# Altium footprint library adafruit.PCBLIB: 643 footprints (part 31 of 41)
Each footprint in its own frame and in the unit in brackets; x right, y up, seen from the top. Pads: shape width x height; smd on the part's side, far side on the other; paste and mask are expansions set on the pad; w line width, h text height; cw(c..) or ccw(c..) is an arc to the next point about the centre after c.
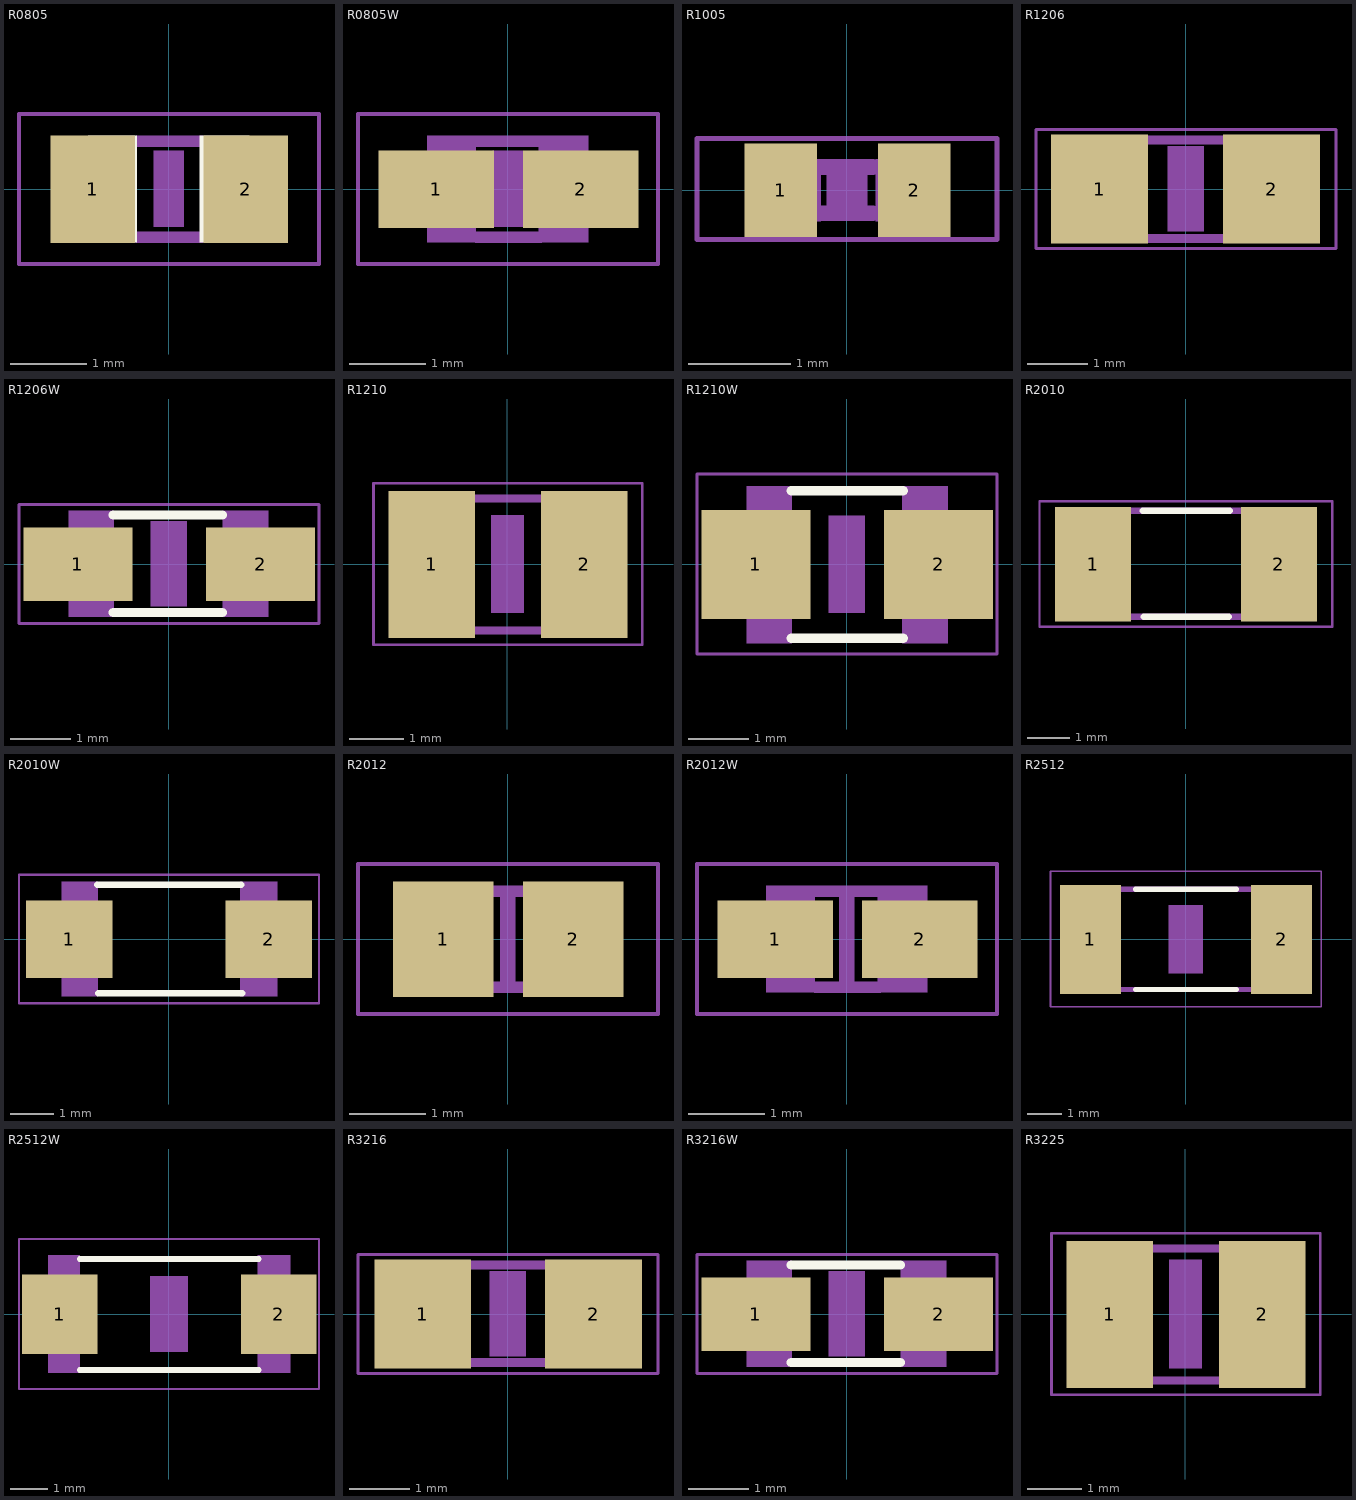
[diagram p30: the footprints below, top view; thin cyan lines are the x and y axes]

## R0805 [mil]
pads (2):
  rect 44x56 smd: 1(-39.37,0) 2(40,0)
Top Overlay:
  rectangle: 16,-27.5 42,28
  rectangle: -42,-27.5 -16.41,28
Assembly Text Top:
  rectangle: -7.87,-19.69 8,20
Courtyard Bottom:
  lines w6: -16.14,-25 17,-25 ; -16.14,25 17,25
Mech37:
  lines w2: -77.68,-38.7 78,-38.7 78,39 -77.68,39 -77.68,-38.7

## R0805W [mil]
pads (2):
  rect 60x40 smd: 1(-37.01,0) 2(38,0)
Assembly Text Top:
  rectangle: -7.87,-19.69 8,20
Courtyard Bottom:
  rectangle: 16,-27.5 42,28
  rectangle: -42,-27.5 -16.41,28
  lines w6: -16.14,-25 17,-25 ; -16.14,25 17,25
Mech37:
  lines w2: -77.68,-38.7 78,-38.7 78,39 -77.68,39 -77.68,-38.7

## R1005 [mil]
pads (2):
  rect 28x36 smd: 1(-25.59,0) 2(26,0)
Assembly Text Top:
  rectangle: -7.87,-11.81 8,12
Courtyard Bottom:
  rectangle: -21.81,-12 -10,12
  rectangle: 11,-12 22,12
  lines w6: -9.65,-8.82 10,-8.82 ; -9.65,9 10,9
Mech37:
  lines w2: -57.99,-19.02 58,-19.02 58,20 -57.99,20 -57.99,-19.02

## R1206 [mil]
pads (2):
  rect 63x71 smd: 1(-55.98,0) 2(56,0)
Assembly Text Top:
  rectangle: -11.81,-27.56 12,28
Courtyard Bottom:
  rectangle: -66.5,-34.5 -37.5,35
  rectangle: 38,-34.5 67,35
  lines w6: -38,-32 38,-32 ; -38,32 38,32
Mech37:
  lines w2: -97.36,-38.7 98,-38.7 98,39 -97.36,39 -97.36,-38.7

## R1206W [mil]
pads (2):
  rect 71x48 smd: 1(-59.02,0) 2(60,0)
Top Overlay:
  lines w6: -35.94,-31.5 35,-31.5 ; -35.94,32 35,32
Assembly Text Top:
  rectangle: -11.81,-27.56 12,28
Courtyard Bottom:
  rectangle: -65,-34.5 -35.47,35
  rectangle: 35,-34.5 65,35
Mech37:
  lines w2: -97.36,-38.7 98,-38.7 98,39 -97.36,39 -97.36,-38.7

## R1210 [mil]
pads (2):
  rect 63x107 smd: 1(-55.12,0) 2(56,0)
Assembly Text Top:
  rectangle: -11.81,-35.43 12,36
Courtyard Bottom:
  rectangle: -65,-51.5 -35.47,51
  rectangle: 36,-51.5 66,51
  lines w6: -35.94,-47.99 37,-47.99 ; -35.94,48 37,48
Mech37:
  lines w2: -97.36,-58.39 98,-58.39 98,59 -97.36,59 -97.36,-58.39

## R1210W [mil]
pads (2):
  rect 71x71 smd: 1(-59.02,0) 2(60,0)
Top Overlay:
  lines w6: -35.94,-47.99 37,-47.99 ; -35.94,48 37,48
Assembly Text Top:
  rectangle: -11.81,-31.5 12,32
Courtyard Bottom:
  rectangle: -65,-51.5 -35.47,51
  rectangle: 36,-51.5 66,51
Mech37:
  lines w2: -97.36,-58.39 98,-58.39 98,59 -97.36,59 -97.36,-58.39

## R2010 [mil]
pads (2):
  rect 71x107 smd: 1(-86.61,0) 2(87,0)
Top Overlay:
  lines w6: -40.43,50 41,50 ; -39.45,-49.02 40,-49.02
Courtyard Bottom:
  rectangle: -98,-52 -64.54,53
  rectangle: 65,-52 99,53
  lines w6: -65.43,50 66,50 ; -64.45,-49.02 67,-49.02
Mech37:
  lines w2: -136.73,-58.39 137,-58.39 137,59 -136.73,59 -136.73,-58.39

## R2010W [mil]
pads (2):
  rect 79x71 smd: 1(-90.98,0) 2(91,0)
Top Overlay:
  lines w6: -65.43,50 66,50 ; -64.45,-49.02 67,-49.02
Courtyard Bottom:
  rectangle: -98,-52 -64.54,53
  rectangle: 65,-52 99,53
Mech37:
  lines w2: -136.73,-58.39 137,-58.39 137,59 -136.73,59 -136.73,-58.39

## R2012 [mil]
pads (2):
  rect 52x60 smd: 1(-33.46,0) 2(34,0)
Assembly Text Top:
  rectangle: -3.94,-23.62 4,24
Courtyard Bottom:
  rectangle: 16,-27.5 42,28
  rectangle: -42,-27.5 -16.41,28
  lines w6: -16.14,-25 17,-25 ; -16.14,25 17,25
Mech37:
  lines w2: -77.68,-38.7 78,-38.7 78,39 -77.68,39 -77.68,-38.7

## R2012W [mil]
pads (2):
  rect 60x40 smd: 1(-37.01,0) 2(38,0)
Assembly Text Top:
  rectangle: -3.94,-23.62 4,24
Courtyard Bottom:
  rectangle: 16,-27.5 42,28
  rectangle: -42,-27.5 -16.41,28
  lines w6: -16.14,-25 17,-25 ; -16.14,25 17,25
Mech37:
  lines w2: -77.68,-38.7 78,-38.7 78,39 -77.68,39 -77.68,-38.7

## R2512 [mil]
pads (2):
  rect 71x126 smd: 1(-110.24,0) 2(111,0)
Top Overlay:
  lines w6: -57.99,-57.99 59,-57.99 ; -57.99,58 59,58
Assembly Text Top:
  rectangle: -19.69,-39.37 20,40
Courtyard Bottom:
  rectangle: -126,-61 -92.54,62
  rectangle: 93,-61 127,62
  lines w6: -92.99,-57.99 94,-57.99 ; -92.99,58 94,58
Mech37:
  lines w2: -156.42,-78.07 157,-78.07 157,79 -156.42,79 -156.42,-78.07

## R2512W [mil]
pads (2):
  rect 79x83 smd: 1(-114.02,0) 2(115,0)
Top Overlay:
  lines w6: -92.99,-57.99 94,-57.99 ; -92.99,58 94,58
Assembly Text Top:
  rectangle: -19.69,-39.37 20,40
Courtyard Bottom:
  rectangle: -126,-61 -92.54,62
  rectangle: 93,-61 127,62
Mech37:
  lines w2: -156.42,-78.07 157,-78.07 157,79 -156.42,79 -156.42,-78.07

## R3216 [mil]
pads (2):
  rect 63x71 smd: 1(-55.12,0) 2(56,0)
Assembly Text Top:
  rectangle: -11.81,-27.56 12,28
Courtyard Bottom:
  rectangle: -65,-34.5 -35.47,35
  rectangle: 35,-34.5 65,35
  lines w6: -35.94,-31.5 35,-31.5 ; -35.94,32 35,32
Mech37:
  lines w2: -97.36,-38.7 98,-38.7 98,39 -97.36,39 -97.36,-38.7

## R3216W [mil]
pads (2):
  rect 71x48 smd: 1(-59.02,0) 2(60,0)
Top Overlay:
  lines w6: -35.94,-31.5 35,-31.5 ; -35.94,32 35,32
Assembly Text Top:
  rectangle: -11.81,-27.56 12,28
Courtyard Bottom:
  rectangle: -65,-34.5 -35.47,35
  rectangle: 35,-34.5 65,35
Mech37:
  lines w2: -97.36,-38.7 98,-38.7 98,39 -97.36,39 -97.36,-38.7

## R3225 [mil]
pads (2):
  rect 63x107 smd: 1(-55.12,0) 2(56,0)
Assembly Text Top:
  rectangle: -11.81,-39.37 12,40
Courtyard Bottom:
  rectangle: -65,-51.5 -35.47,51
  rectangle: 36,-51.5 66,51
  lines w6: -35.94,-47.99 37,-47.99 ; -35.94,48 37,48
Mech37:
  lines w2: -97.36,-58.39 98,-58.39 98,59 -97.36,59 -97.36,-58.39